# Altium footprint library 三电平变换器.PCBLIB: 98 footprints (part 6 of 7)
Each footprint in its own frame and in the unit in brackets; x right, y up, seen from the top. Pads: shape width x height; smd on the part's side, far side on the other; paste and mask are expansions set on the pad; w line width, h text height; cw(c..) or ccw(c..) is an arc to the next point about the centre after c.
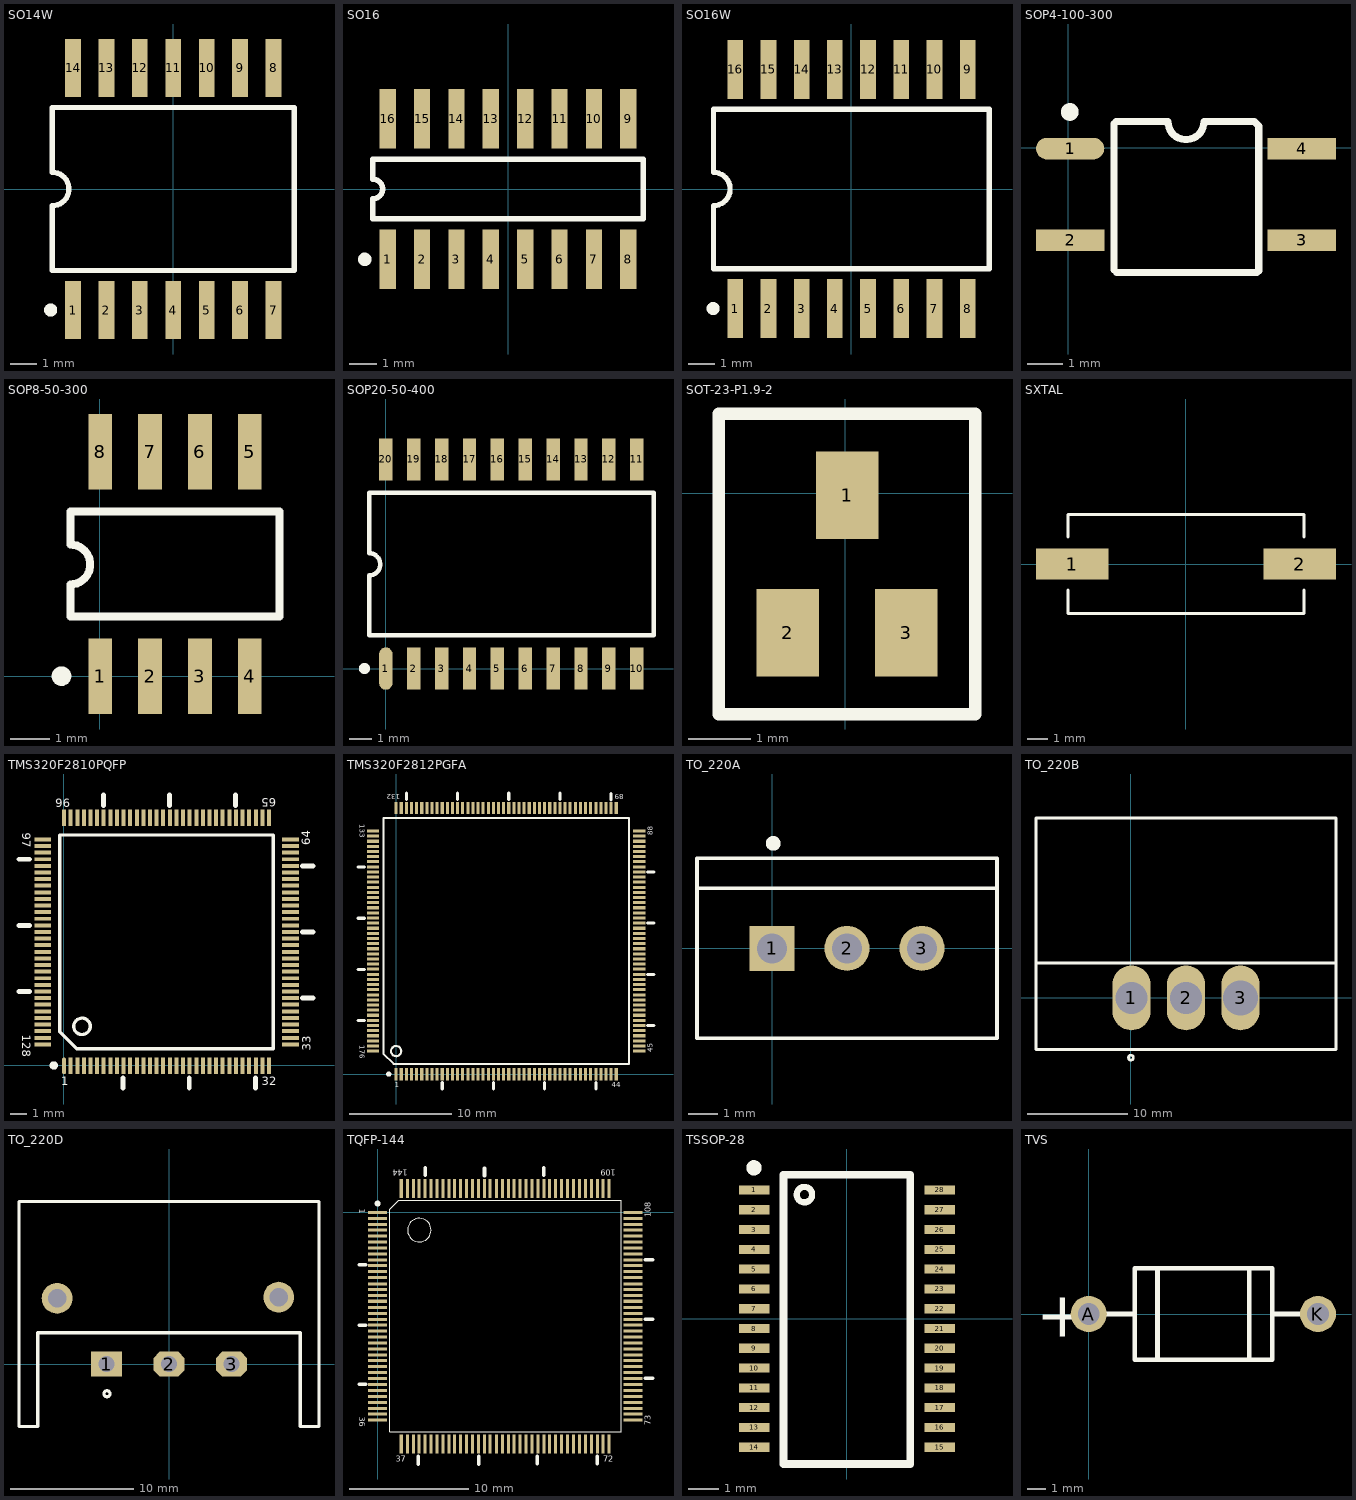
[diagram p5: the footprints below, top view; thin cyan lines are the x and y axes]

## SO14W [mm] "Small Outline; 14 Leads; Body Width 7.5 mm; Pitch 1.27 mm"
height 2.65
pads (14):
  rect 0.6x2.2 smd: 1(-3.81,-4.6) 2(-2.54,-4.6) 3(-1.27,-4.6) 4(0,-4.6) 5(1.27,-4.6) 6(2.54,-4.6) 7(3.81,-4.6) 8(3.81,4.6) 9(2.54,4.6) 10(1.27,4.6) 11(0,4.6) 12(-1.27,4.6) 13(-2.54,4.6) 14(-3.81,4.6)
TopOverlay:
  circle w0.25: c-4.66,-4.6 r0.125
  lines w0.2: -4.6,-3.1 4.6,-3.1 4.6,3.1 -4.6,3.1 -4.6,0.635 cw(c-4.6,0) -4.6,-0.635 -4.6,-3.1

## SO16 [mm] "Small Outline; 16 Leads; Body Width 3.9 mm; Pitch 1.27 mm"
height 1.75
pads (16):
  rect 0.6x2.2 smd: 1(-4.445,-2.6) 2(-3.175,-2.6) 3(-1.905,-2.6) 4(-0.635,-2.6) 5(0.635,-2.6) 6(1.905,-2.6) 7(3.175,-2.6) 8(4.445,-2.6) 9(4.445,2.6) 10(3.175,2.6) 11(1.905,2.6) 12(0.635,2.6) 13(-0.635,2.6) 14(-1.905,2.6) 15(-3.175,2.6) 16(-4.445,2.6)
TopOverlay:
  circle w0.25: c-5.295,-2.6 r0.125
  lines w0.2: -5,-1.1 -5,-0.367 ccw(c-5,0) -5,0.367 -5,1.1 5,1.1 5,-1.1 -5,-1.1

## SO16W [mm] "Small Outline; 16 Leads; Body Width 7.5 mm; Pitch 1.27 mm"
height 2.65
pads (16):
  rect 0.6x2.25 smd: 1(-4.445,-4.575) 2(-3.175,-4.575) 3(-1.905,-4.575) 4(-0.635,-4.575) 5(0.635,-4.575) 6(1.905,-4.575) 7(3.175,-4.575) 8(4.445,-4.575) 9(4.445,4.575) 10(3.175,4.575) 11(1.905,4.575) 12(0.635,4.575) 13(-0.635,4.575) 14(-1.905,4.575) 15(-3.175,4.575) 16(-4.445,4.575)
TopOverlay:
  circle w0.25: c-5.295,-4.575 r0.125
  lines w0.2: -5.275,-3.05 5.275,-3.05 5.275,3.05 -5.275,3.05 -5.275,0.635 cw(c-5.275,0) -5.275,-0.635 -5.275,-3.05

## SOP4-100-300 [mil] "贴片, 4脚"
pads (4):
  oval 76x24 smd: 1(1.91,-0.81)
  rect 76x24 smd: 2(1.91,-102.81) 3(259.91,-102.81) 4(259.91,-0.81)
TopOverlay:
  circle w9.84: c1.54,40 r4.92
  lines w8: 50.91,-135.81 50.91,-79.81 ; 50.91,-87.81 50.91,22.19 50.91,27.19 ; 52.91,29.19 78.91,29.19 110.91,29.19 ccw(c130.91,29.19) 150.91,29.19 183.91,29.19 206.91,29.19 211.91,24.19 211.91,-80.81 211.91,-136.81 ; 53.91,-138.81 78.91,-138.81 183.91,-138.81 209.91,-138.81

## SOP8-50-300 [mil]
pads (8):
  rect 24x76 smd: 1(0.4,0) 2(50.4,0) 3(100.4,0) 4(150.4,0) 5(150.4,225) 6(100.4,225) 7(50.4,225) 8(0.4,225)
TopOverlay:
  circle w9.84: c-38.46,0 r4.92
  lines w8: -29.6,60 -29.6,92 ccw(c-29.6,112) -29.6,132 -29.6,165 180.4,165 180.4,60 -29.6,60

## SOP20-50-400 [mil]
pads (20):
  oval 24x76 smd: 1(0,0)
  rect 24x76 smd: 2(50,0) 3(100,0) 4(150,0) 5(200,0) 6(250,0) 7(300,0) 8(350,0) 9(400,0) 10(450,0) 11(450,375) 12(400,375) 13(350,375) 14(300,375) 15(250,375) 16(200,375) 17(150,375) 18(100,375) 19(50,375) 20(0,375)
TopOverlay:
  circle w9.84: c-38.46,0 r4.92
  lines w8: -30,60 480,60 480,315 -30,315 -30,207 cw(c-30,187) -30,167 -30,60

## SOT-23-P1.9-2 [mm]
pads (3):
  rect 1x1.4 smd: 1(0.025,-0.035) 2(-0.925,-2.235) 3(0.975,-2.235)
TopOverlay:
  lines w0.2: -2.025,-3.535 -2.025,1.265 2.075,1.265 2.075,-3.535 -2.025,-3.535

## SXTAL [mm]
pads (2):
  rect 3.5x1.5 smd: 1(-5.49,0) 2(5.51,0)
TopOverlay:
  lines w0.15: -5.69,-2.4 5.71,-2.4 ; -5.69,2.4 5.71,2.4
  lines w0.152: -5.69,-2.4 -5.69,-1.25 ; -5.69,1.3 -5.69,2.4 ; 5.71,-2.4 5.71,-1.25 ; 5.71,1.3 5.71,2.4

## TMS320F2810PQFP [mm]
pads (128):
  oval 0.24x1 smd: 1(0.025,-0.025)
  rect 0.24x1 smd: 2(0.425,-0.025) 3(0.825,-0.025) 4(1.225,-0.025) 5(1.625,-0.025) 6(2.025,-0.025) 7(2.425,-0.025) 8(2.825,-0.025) 9(3.225,-0.025) 10(3.625,-0.025) 11(4.025,-0.025) 12(4.425,-0.025) 13(4.825,-0.025) 14(5.225,-0.025) 15(5.625,-0.025) 16(6.025,-0.025) 17(6.425,-0.025) 18(6.825,-0.025) 19(7.225,-0.025) 20(7.625,-0.025) 21(8.025,-0.025) 22(8.425,-0.025) 23(8.825,-0.025) 24(9.225,-0.025) 25(9.625,-0.025) 26(10.025,-0.025) 27(10.425,-0.025) 28(10.825,-0.025) 29(11.225,-0.025) 30(11.625,-0.025) 31(12.025,-0.025) 32(12.425,-0.025) 65(12.425,14.975) 66(12.025,14.975) 67(11.625,14.975) 68(11.225,14.975) 69(10.825,14.975) 70(10.425,14.975) 71(10.025,14.975) 72(9.625,14.975) 73(9.225,14.975) 74(8.825,14.975) 75(8.425,14.975) 76(8.025,14.975) 77(7.625,14.975) 78(7.225,14.975) 79(6.825,14.975) 80(6.425,14.975) 81(6.025,14.975) 82(5.625,14.975) 83(5.225,14.975) 84(4.825,14.975) 85(4.425,14.975) 86(4.025,14.975) 87(3.625,14.975) 88(3.225,14.975) 89(2.825,14.975) 90(2.425,14.975) 91(2.025,14.975) 92(1.625,14.975) 93(1.225,14.975) 94(0.825,14.975) 95(0.425,14.975) 96(0.025,14.975)
  rect 1x0.24 smd: 33(13.725,1.275) 34(13.725,1.675) 35(13.725,2.075) 36(13.725,2.475) 37(13.725,2.875) 38(13.725,3.275) 39(13.725,3.675) 40(13.725,4.075) 41(13.725,4.475) 42(13.725,4.875) 43(13.725,5.275) 44(13.725,5.675) 45(13.725,6.075) 46(13.725,6.475) 47(13.725,6.875) 48(13.725,7.275) 49(13.725,7.675) 50(13.725,8.075) 51(13.725,8.475) 52(13.725,8.875) 53(13.725,9.275) 54(13.725,9.675) 55(13.725,10.075) 56(13.725,10.475) 57(13.725,10.875) 58(13.725,11.275) 59(13.725,11.675) 60(13.725,12.075) 61(13.725,12.475) 62(13.725,12.875) 63(13.725,13.275) 64(13.725,13.675) 97(-1.275,13.675) 98(-1.275,13.275) 99(-1.275,12.875) 100(-1.275,12.475) 101(-1.275,12.075) 102(-1.275,11.675) 103(-1.275,11.275) 104(-1.275,10.875) 105(-1.275,10.475) 106(-1.275,10.075) 107(-1.275,9.675) 108(-1.275,9.275) 109(-1.275,8.875) 110(-1.275,8.475) 111(-1.275,8.075) 112(-1.275,7.675) 113(-1.275,7.275) 114(-1.275,6.875) 115(-1.275,6.475) 116(-1.275,6.075) 117(-1.275,5.675) 118(-1.275,5.275) 119(-1.275,4.875) 120(-1.275,4.475) 121(-1.275,4.075) 122(-1.275,3.675) 123(-1.275,3.275) 124(-1.275,2.875) 125(-1.275,2.475) 126(-1.275,2.075) 127(-1.275,1.675) 128(-1.275,1.275)
TopOverlay:
  circle w0.2: c1.112,2.368 r0.5
  circle w0.25: c-0.596,0 r0.125
  lines w0.2: -0.24,2.045 -0.24,13.94 12.69,13.94 12.69,1.01 0.795,1.01 -0.24,2.045
  lines w0.3: -2.7,4.475 -2.075,4.475 ; -2.7,8.475 -2.075,8.475 ; -2.7,12.475 -2.075,12.475 ; 2.4,15.725 2.4,16.35 ; 3.6,-1.375 3.6,-0.75 ; 6.4,15.725 6.4,16.35 ; 7.6,-1.375 7.6,-0.75 ; 10.4,15.725 10.4,16.35 ; 11.6,-1.375 11.6,-0.75 ; 14.45,4.075 15.075,4.075 ; 14.45,8.075 15.075,8.075 ; 14.45,12.075 15.075,12.075
  text "64" at 14.925,13.325 h0.5
  text "33" at 14.95,0.875 h0.5
  text "1" at -0.131,-1.2 h0.5
  text "32" at 12,-1.2 h0.5
  text "96" at 0.4,16.15 h0.5
  text "65" at 12.85,16.175 h0.5
  text "128" at -2.5,1.85 h0.5
  text "97" at -2.5,14.075 h0.5

## TMS320F2812PGFA [mm]
pads (176):
  rect 0.3x1.2 smd: 1(0,0) 2(0.5,0) 3(1,0) 4(1.5,0) 5(2,0) 6(2.5,0) 7(3,0) 8(3.5,0) 9(4,0) 10(4.5,0) 11(5,0) 12(5.5,0) 13(6,0) 14(6.5,0) 15(7,0) 16(7.5,0) 17(8,0) 18(8.5,0) 19(9,0) 20(9.5,0) 21(10,0) 22(10.5,0) 23(11,0) 24(11.5,0) 25(12,0) 26(12.5,0) 27(13,0) 28(13.5,0) 29(14,0) 30(14.5,0) 31(15,0) 32(15.5,0) 33(16,0) 34(16.5,0) 35(17,0) 36(17.5,0) 37(18,0) 38(18.5,0) 39(19,0) 40(19.5,0) 41(20,0) 42(20.5,0) 43(21,0) 44(21.5,0) 89(21.5,26) 90(21,26) 91(20.5,26) 92(20,26) 93(19.5,26) 94(19,26) 95(18.5,26) 96(18,26) 97(17.5,26) 98(17,26) 99(16.5,26) 100(16,26) 101(15.5,26) 102(15,26) 103(14.5,26) 104(14,26) 105(13.5,26) 106(13,26) 107(12.5,26) 108(12,26) 109(11.5,26) 110(11,26) 111(10.5,26) 112(10,26) 113(9.5,26) 114(9,26) 115(8.5,26) 116(8,26) 117(7.5,26) 118(7,26) 119(6.5,26) 120(6,26) 121(5.5,26) 122(5,26) 123(4.5,26) 124(4,26) 125(3.5,26) 126(3,26) 127(2.5,26) 128(2,26) 129(1.5,26) 130(1,26) 131(0.5,26) 132(0,26)
  rect 1.2x0.3 smd: 45(23.75,2.25) 46(23.75,2.75) 47(23.75,3.25) 48(23.75,3.75) 49(23.75,4.25) 50(23.75,4.75) 51(23.75,5.25) 52(23.75,5.75) 53(23.75,6.25) 54(23.75,6.75) 55(23.75,7.25) 56(23.75,7.75) 57(23.75,8.25) 58(23.75,8.75) 59(23.75,9.25) 60(23.75,9.75) 61(23.75,10.25) 62(23.75,10.75) 63(23.75,11.25) 64(23.75,11.75) 65(23.75,12.25) 66(23.75,12.75) 67(23.75,13.25) 68(23.75,13.75) 69(23.75,14.25) 70(23.75,14.75) 71(23.75,15.25) 72(23.75,15.75) 73(23.75,16.25) 74(23.75,16.75) 75(23.75,17.25) 76(23.75,17.75) 77(23.75,18.25) 78(23.75,18.75) 79(23.75,19.25) 80(23.75,19.75) 81(23.75,20.25) 82(23.75,20.75) 83(23.75,21.25) 84(23.75,21.75) 85(23.75,22.25) 86(23.75,22.75) 87(23.75,23.25) 88(23.75,23.75) 133(-2.25,23.75) 134(-2.25,23.25) 135(-2.25,22.75) 136(-2.25,22.25) 137(-2.25,21.75) 138(-2.25,21.25) 139(-2.25,20.75) 140(-2.25,20.25) 141(-2.25,19.75) 142(-2.25,19.25) 143(-2.25,18.75) 144(-2.25,18.25) 145(-2.25,17.75) 146(-2.25,17.25) 147(-2.25,16.75) 148(-2.25,16.25) 149(-2.25,15.75) 150(-2.25,15.25) 151(-2.25,14.75) 152(-2.25,14.25) 153(-2.25,13.75) 154(-2.25,13.25) 155(-2.25,12.75) 156(-2.25,12.25) 157(-2.25,11.75) 158(-2.25,11.25) 159(-2.25,10.75) 160(-2.25,10.25) 161(-2.25,9.75) 162(-2.25,9.25) 163(-2.25,8.75) 164(-2.25,8.25) 165(-2.25,7.75) 166(-2.25,7.25) 167(-2.25,6.75) 168(-2.25,6.25) 169(-2.25,5.75) 170(-2.25,5.25) 171(-2.25,4.75) 172(-2.25,4.25) 173(-2.25,3.75) 174(-2.25,3.25) 175(-2.25,2.75) 176(-2.25,2.25)
TopOverlay:
  circle w0.2: c0,2.25 r0.5
  circle w0.25: c-0.723,0 r0.125
  lines w0.2: -1.25,2 -0.25,1 22.75,1 22.75,25 -1.25,25 -1.25,2
  lines w0.3: -3.7,5.225 -3.075,5.225 ; -3.7,10.225 -3.075,10.225 ; -3.7,15.225 -3.075,15.225 ; -3.7,20.225 -3.075,20.225 ; 1,26.825 1,27.45 ; 4.5,-1.45 4.5,-0.825 ; 6,26.825 6,27.45 ; 9.5,-1.45 9.5,-0.825 ; 11,26.825 11,27.45 ; 14.5,-1.45 14.5,-0.825 ; 16,26.825 16,27.45 ; 19.5,-1.45 19.5,-0.825 ; 21,26.8 21,27.425 ; 24.575,4.75 25.2,4.75 ; 24.575,9.75 25.2,9.75 ; 24.575,14.75 25.2,14.75 ; 24.575,19.75 25.2,19.75
  text "89" at 22.25,27.35 h0.5
  text "132" at 0.4,27.35 h0.5
  text "45" at 25.05,2.15 h0.5
  text "88" at 25.05,23.35 h0.5
  text "44" at 21.05,-1.3 h0.5
  text "1" at -0.15,-1.3 h0.5
  text "176" at -3.55,2.8 h0.5
  text "133" at -3.55,24.4 h0.5

## TO_220A [mil]
pads (3):
  rect 60x60 hole 40: 1(0,0)
  round 60 hole 40: 2(100,0) 3(200,0)
TopOverlay:
  circle w9.84: c1.54,140 r4.92
  lines w5: -100,80 300,80 ; -100,-120 -100,120 300,120 300,-120 -100,-120

## TO_220B [mm]
pads (3):
  oval 3.8x6.5 hole 3.2: 1(0.062,0.008) 2(5.512,0.008)
  oval 3.8x6.5 hole 3.5: 3(10.962,0.008)
TopOverlay:
  circle w0.25: c0.004,-5.969 r0.25
  lines w0.3: -9.488,3.508 20.512,3.508 ; 20.512,-5.174 -9.488,-5.174 -9.488,18.008 20.512,18.008 20.512,-5.044

## TO_220D [mm]
pads (5):
  rect 2.5x2 hole 1.3: 1(-5.08,0)
  oct 2.5x2 hole 1.3: 2(0,0) 3(5.08,0)
  round 2.5 hole 1.5: ""(-9.098,5.338) ""(8.911,5.44)
TopOverlay:
  circle w0.25: c-5.041,-2.413 r0.25
  lines w0.254: -12.192,-5.076 -10.668,-5.076 -10.668,2.54 10.668,2.54 10.668,-5.076 12.192,-5.076 12.192,13.212 -12.192,13.212 -12.192,-5.076

## TQFP-144 [mil]
pads (144):
  rect 63x10 smd: 1(0.42,-0.4) 2(0.42,-20.4) 3(0.42,-40.4) 4(0.42,-59.4) 5(0.42,-79.4) 6(0.42,-99.4) 7(0.42,-119.4) 8(0.42,-138.4) 9(0.42,-158.4) 10(0.42,-177.4) 11(0.42,-197.4) 12(0.42,-217.4) 13(0.42,-237.4) 14(0.42,-256.4) 15(0.42,-276.4) 16(0.42,-295.4) 17(0.42,-315.4) 18(0.42,-335.4) 19(0.42,-355.4) 20(0.42,-374.4) 21(0.42,-394.4) 22(0.42,-413.4) 23(0.42,-433.4) 24(0.42,-453.4) 25(0.42,-473.4) 26(0.42,-492.4) 27(0.42,-512.4) 28(0.42,-532.4) 29(0.42,-551.4) 30(0.42,-571.4) 31(0.42,-591.4) 32(0.42,-611.4) 33(0.42,-630.4) 34(0.42,-650.4) 35(0.42,-669.4) 36(0.42,-689.4) 73(846.42,-689.4) 74(846.42,-669.4) 75(846.42,-650.4) 76(846.42,-630.4) 77(846.42,-611.4) 78(846.42,-591.4) 79(846.42,-571.4) 80(846.42,-551.4) 81(846.42,-532.4) 82(846.42,-512.4) 83(846.42,-492.4) 84(846.42,-473.4) 85(846.42,-453.4) 86(846.42,-433.4) 87(846.42,-413.4) 88(846.42,-394.4) 89(846.42,-374.4) 90(846.42,-355.4) 91(846.42,-335.4) 92(846.42,-315.4) 93(846.42,-295.4) 94(846.42,-276.4) 95(846.42,-256.4) 96(846.42,-237.4) 97(846.42,-217.4) 98(846.42,-197.4) 99(846.42,-177.4) 100(846.42,-158.4) 101(846.42,-138.4) 102(846.42,-119.4) 103(846.42,-99.4) 104(846.42,-79.4) 105(846.42,-59.4) 106(846.42,-40.4) 107(846.42,-20.4) 108(846.42,-0.4)
  rect 10x63 smd: 37(78.42,-768.4) 38(98.42,-768.4) 39(118.42,-768.4) 40(137.42,-768.4) 41(157.42,-768.4) 42(177.42,-768.4) 43(197.42,-768.4) 44(216.42,-768.4) 45(236.42,-768.4) 46(255.42,-768.4) 47(275.42,-768.4) 48(295.42,-768.4) 49(315.42,-768.4) 50(334.42,-768.4) 51(354.42,-768.4) 52(373.42,-768.4) 53(393.42,-768.4) 54(413.42,-768.4) 55(433.42,-768.4) 56(452.42,-768.4) 57(472.42,-768.4) 58(491.42,-768.4) 59(511.42,-768.4) 60(531.42,-768.4) 61(551.42,-768.4) 62(570.42,-768.4) 63(590.42,-768.4) 64(610.42,-768.4) 65(629.42,-768.4) 66(649.42,-768.4) 67(669.42,-768.4) 68(689.42,-768.4) 69(708.42,-768.4) 70(728.42,-768.4) 71(747.42,-768.4) 72(767.42,-768.4) 109(767.42,78.6) 110(747.42,78.6) 111(728.42,78.6) 112(708.42,78.6) 113(689.42,78.6) 114(669.42,78.6) 115(649.42,78.6) 116(629.42,78.6) 117(610.42,78.6) 118(590.42,78.6) 119(570.42,78.6) 120(551.42,78.6) 121(531.42,78.6) 122(511.42,78.6) 123(491.42,78.6) 124(472.42,78.6) 125(452.42,78.6) 126(433.42,78.6) 127(413.42,78.6) 128(393.42,78.6) 129(373.42,78.6) 130(354.42,78.6) 131(334.42,78.6) 132(315.42,78.6) 133(295.42,78.6) 134(275.42,78.6) 135(255.42,78.6) 136(236.42,78.6) 137(216.42,78.6) 138(197.42,78.6) 139(177.42,78.6) 140(157.42,78.6) 141(137.42,78.6) 142(118.42,78.6) 143(98.42,78.6) 144(78.42,78.6)
TopOverlay:
  circle w9.84: c0.16,28.54 r4.92
  circle w4: c138.42,-59.4 r39
  lines w4: 40.42,-727.4 808.42,-727.4 808.42,-492.4 808.42,38.6 808.42,39.6 70.42,39.6 40.42,9.6 40.42,-727.4
  lines w11.81: -60,-570 -40,-570 ; -60,-375 -40,-375 ; -60,-175 -40,-175 ; 135,-835 135,-810 ; 157.48,122.05 157.48,147.05 ; 335,-835 335,-810 ; 354.33,121.06 354.33,146.06 ; 529.53,-834.65 529.53,-809.65 ; 551.18,122.05 551.18,147.05 ; 728.35,-834.65 728.35,-809.65 ; 887.8,-551.18 912.8,-551.18 ; 887.8,-355.31 912.8,-355.31 ; 887.8,-158.46 912.8,-158.46
  text "1" at -61.06,11.06 h19.68
  text "36" at -61.06,-677.87 h19.68
  text "144" at 100,140 h19.68
  text "109" at 790,140 h19.68
  text "73" at 906.06,-706.06 h19.68
  text "108" at 906.06,-17.13 h19.68
  text "72" at 748.94,-826.77 h19.68
  text "37" at 60,-826.77 h19.68

## TSSOP-28 [mm]
pads (28):
  rect 1x0.3 smd: 1(-3.04,4.225) 2(-3.04,3.575) 3(-3.04,2.925) 4(-3.04,2.275) 5(-3.04,1.625) 6(-3.04,0.975) 7(-3.04,0.325) 8(-3.04,-0.325) 9(-3.04,-0.975) 10(-3.04,-1.625) 11(-3.04,-2.275) 12(-3.04,-2.925) 13(-3.04,-3.575) 14(-3.04,-4.225) 15(3.06,-4.225) 16(3.06,-3.575) 17(3.06,-2.925) 18(3.06,-2.275) 19(3.06,-1.625) 20(3.06,-0.975) 21(3.06,-0.325) 22(3.06,0.325) 23(3.06,0.975) 24(3.06,1.625) 25(3.06,2.275) 26(3.06,2.925) 27(3.06,3.575) 28(3.06,4.225)
TopOverlay:
  circle w0.203: c-1.389,4.073 r0.254
  circle w0.25: c-3.046,4.953 r0.125
  lines w0.254: -2.075,-4.775 2.091,-4.775 2.091,4.725 -2.075,4.725 -2.075,-4.775

## TVS [mm]
pads (2):
  round 2 hole 1.2: A(0,0) K(12.7,0)
TopOverlay:
  lines w0.254: 0,0 2.54,0 ; 3.81,-2.54 3.81,2.54 ; 8.89,-2.54 8.89,2.54 ; 10.16,0 12.7,0 ; 2.54,-2.54 10.16,-2.54 10.16,2.54 2.54,2.54 2.54,-2.54
  text "+" at -2.921,-1.27 h2.54